# EAGLE library part VQEXX_2DIGIT (library be_opt)
edited: Mario Blunk
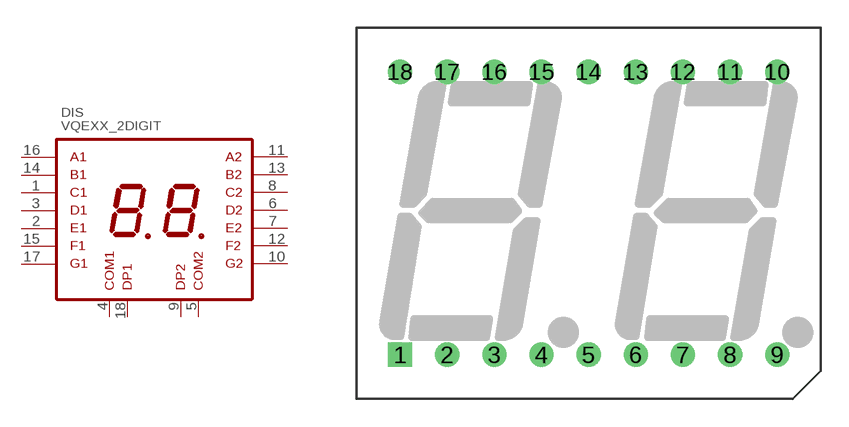
[diagram p0: symbol with the pads of T_VQEXX_2DIGIT; footprint T_VQEXX_2DIGIT]

Designator prefix DIS

## VQEXX_2DIGIT_T_VQEXX_2DIGIT (BOM: YES; COMMISSIONED: 2014-10-14; PART_CODE_BEL: DIS_PAC_T_VQEXX_2DIGIT_VAL_)  [T_VQEXX_2DIGIT]
1  C1  pas
2  E1  pas
3  D1  pas
4  COM1  pas
5  COM2  pas
6  D2  pas
7  E2  pas
8  C2  pas
9  DP2  pas
10  G2  pas
11  A2  pas
12  F2  pas
13  B2  pas
14  B1  pas
15  F1  pas
16  A1  pas
17  G1  pas
18  DP1  pas

## Footprint T_VQEXX_2DIGIT (pad centres in mm)
edited: Mario Blunk date: 2012-10-14
drill 0.8 square: 1 -10.16,-7.62
drill 0.8: 2 -7.62,-7.62; 3 -5.08,-7.62; 4 -2.54,-7.62; 5 0,-7.62; 6 2.54,-7.62; 7 5.08,-7.62; 8 7.62,-7.62; 9 10.16,-7.62; 10 10.16,7.62; 11 7.62,7.62; 12 5.08,7.62; 13 2.54,7.62; 14 0,7.62; 15 -2.54,7.62; 16 -5.08,7.62; 17 -7.62,7.62; 18 -10.16,7.62